# Altium footprint library PCB - LEADED - DPAK - TI DDPAK-5 KTT R-PSFM-G5.PcbLib: 1 footprints
Each footprint in its own frame and in the unit in brackets; x right, y up, seen from the top. Pads: shape width x height; smd on the part's side, far side on the other; paste and mask are expansions set on the pad; w line width, h text height; cw(c..) or ccw(c..) is an arc to the next point about the centre after c.
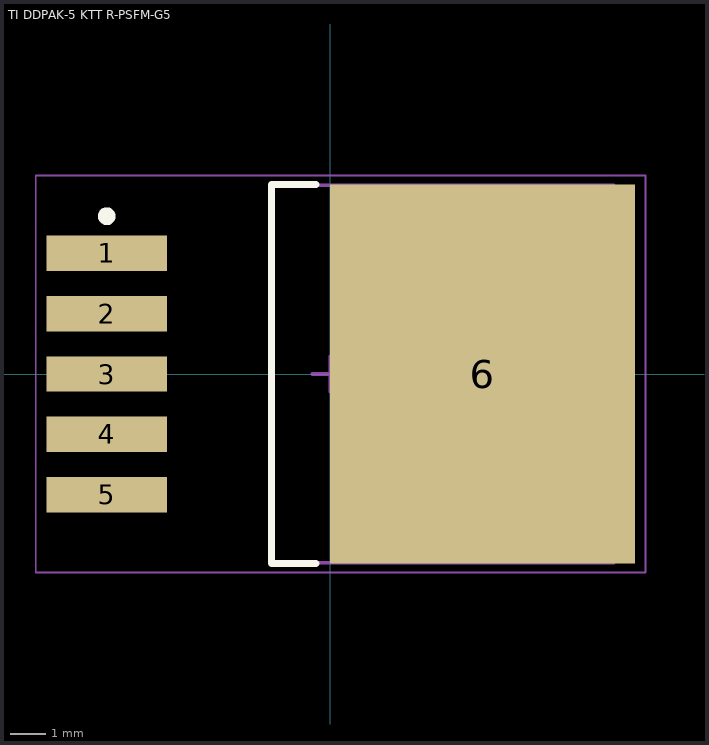
[diagram p0: the footprint, top view; thin cyan lines are the x and y axes]

## TI DDPAK-5 KTT R-PSFM-G5 [mm] "TO-263-6, D2PAK (5 Leads + Tab), TO-263BA"
height 4.83
pads (6):
  rect 3.4x1 smd: 1(-6.3,3.4) 2(-6.3,1.7) 3(-6.3,0) 4(-6.3,-1.7) 5(-6.3,-3.4)
  rect 8.6x10.7 smd: 6(4.3,0)
Top Overlay:
  circle w0.25: c-6.3,4.45 r0.125
  lines w0.2: -0.4,-5.35 -1.65,-5.35 -1.65,5.35 -0.4,5.35
Mechanical 13:
  lines w0.1: -1.65,-5.325 -1.65,5.325 8,5.325 8,-5.325 -1.65,-5.325
Mechanical 15:
  lines w0.05: -8.3,-5.6 -8.3,5.6 8.9,5.6 8.9,-5.6 -8.3,-5.6
  lines w0.1: -0.5,0 0.5,0 ; 0,-0.5 0,0.5
3D body "TI DDPAK-5 KTT R-PSFM-G5.step": height 4.83, standoff 0, extent -7.321,-5.325 7.919,5.325